# EAGLE library part LIS331DLH (library LIS331DLH)
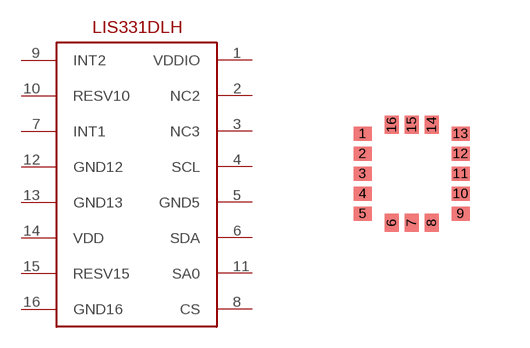
[diagram p0: symbol with the pads of LIS331DLH; footprint LIS331DLH]

Designator prefix -

## LIS331DLH  [LIS331DLH]
1  VDDIO
2  NC2
3  NC3
4  SCL
5  GND5
6  SDA
7  INT1
8  CS
9  INT2
10  RESV10
11  SA0
12  GND12
13  GND13
14  VDD
15  RESV15
16  GND16

## Footprint LIS331DLH (pad centres in mm)
smd 0.45 x 0.35: 1 -1.225,1; 2 -1.225,0.5; 3 -1.225,0; 4 -1.225,-0.5; 5 -1.225,-1; 9 1.225,-1; 10 1.225,-0.5; 11 1.225,0; 12 1.225,0.5; 13 1.225,1
smd 0.35 x 0.45: 6 -0.5,-1.225; 7 0,-1.225; 8 0.5,-1.225; 14 0.5,1.225; 15 0,1.225; 16 -0.5,1.225